# Altium integrated library ALTIUM-WE-SL1-rev16a.IntLib: 8 symbols
Pins are listed as number, name and electrical type; pins without a type are passive.

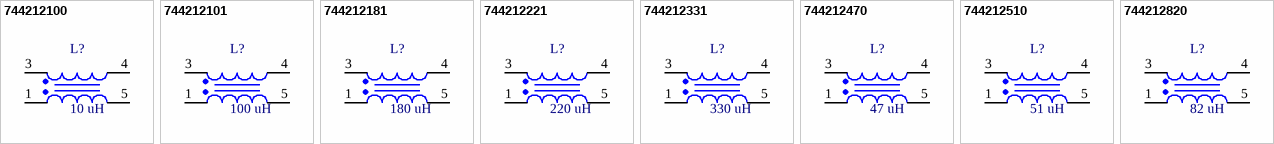
[diagram p0: symbols 744212100 to 744212820]

## 744212100
designator L?, comment 10 uH
WE-SL1 SMD Common Mode Line Filter, 10 uH; PartNumber: 744212100; PublishedDate: Nov. 2016; Publisher: Wurth Elektronik; ComponentLink1Description: Manufacturer; ComponentLink1URL: http://www.we-online.de; ComponentLink2Description: Datasheet; ComponentLink2URL: http://katalog.we-online.de/pbs/datasheet/744212100.pdf; Value: 10 uH
footprint WE-SL1
pins: 1, 3, 4, 5

## 744212101
designator L?, comment 100 uH
WE-SL1 SMD Common Mode Line Filter, 100 uH; PartNumber: 744212101; PublishedDate: Nov. 2016; Publisher: Wurth Elektronik; ComponentLink1Description: Manufacturer; ComponentLink1URL: http://www.we-online.de; ComponentLink2Description: Datasheet; ComponentLink2URL: http://katalog.we-online.de/pbs/datasheet/744212101.pdf; Value: 100 uH
footprint WE-SL1
pins: 1, 3, 4, 5

## 744212181
designator L?, comment 180 uH
WE-SL1 SMD Common Mode Line Filter, 180 uH; PartNumber: 744212181; PublishedDate: Nov. 2016; Publisher: Wurth Elektronik; ComponentLink1Description: Manufacturer; ComponentLink1URL: http://www.we-online.de; ComponentLink2Description: Datasheet; ComponentLink2URL: http://katalog.we-online.de/pbs/datasheet/744212181.pdf; Value: 180 uH
footprint WE-SL1
pins: 1, 3, 4, 5

## 744212221
designator L?, comment 220 uH
WE-SL1 SMD Common Mode Line Filter, 220 uH; PartNumber: 744212221; PublishedDate: Nov. 2016; Publisher: Wurth Elektronik; ComponentLink1Description: Manufacturer; ComponentLink1URL: http://www.we-online.de; ComponentLink2Description: Datasheet; ComponentLink2URL: http://katalog.we-online.de/pbs/datasheet/744212221.pdf; Value: 220 uH
footprint WE-SL1
pins: 1, 3, 4, 5

## 744212331
designator L?, comment 330 uH
WE-SL1 SMD Common Mode Line Filter, 330 uH; PartNumber: 744212331; PublishedDate: Nov. 2016; Publisher: Wurth Elektronik; ComponentLink1Description: Manufacturer; ComponentLink1URL: http://www.we-online.de; ComponentLink2Description: Datasheet; ComponentLink2URL: http://katalog.we-online.de/pbs/datasheet/744212331.pdf; Value: 330 uH
footprint WE-SL1
pins: 1, 3, 4, 5

## 744212470
designator L?, comment 47 uH
WE-SL1 SMD Common Mode Line Filter, 47 uH; PartNumber: 744212470; PublishedDate: Nov. 2016; Publisher: Wurth Elektronik; ComponentLink1Description: Manufacturer; ComponentLink1URL: http://www.we-online.de; ComponentLink2Description: Datasheet; ComponentLink2URL: http://katalog.we-online.de/pbs/datasheet/744212470.pdf; Value: 47 uH
footprint WE-SL1
pins: 1, 3, 4, 5

## 744212510
designator L?, comment 51 uH
WE-SL1 SMD Common Mode Line Filter, 51 uH; PartNumber: 744212510; PublishedDate: Nov. 2016; Publisher: Wurth Elektronik; ComponentLink1Description: Manufacturer; ComponentLink1URL: http://www.we-online.de; ComponentLink2Description: Datasheet; ComponentLink2URL: http://katalog.we-online.de/pbs/datasheet/744212510.pdf; Value: 51 uH
footprint WE-SL1
pins: 1, 3, 4, 5

## 744212820
designator L?, comment 82 uH
WE-SL1 SMD Common Mode Line Filter, 82 uH; PartNumber: 744212820; PublishedDate: Nov. 2016; Publisher: Wurth Elektronik; ComponentLink1Description: Manufacturer; ComponentLink1URL: http://www.we-online.de; ComponentLink2Description: Datasheet; ComponentLink2URL: http://katalog.we-online.de/pbs/datasheet/744212820.pdf; Value: 82 uH
footprint WE-SL1
pins: 1, 3, 4, 5